# EAGLE library part SN65LVDS051 (library gost_micro)
SN65LVDS051 High-speed LVDS drivers and recievers
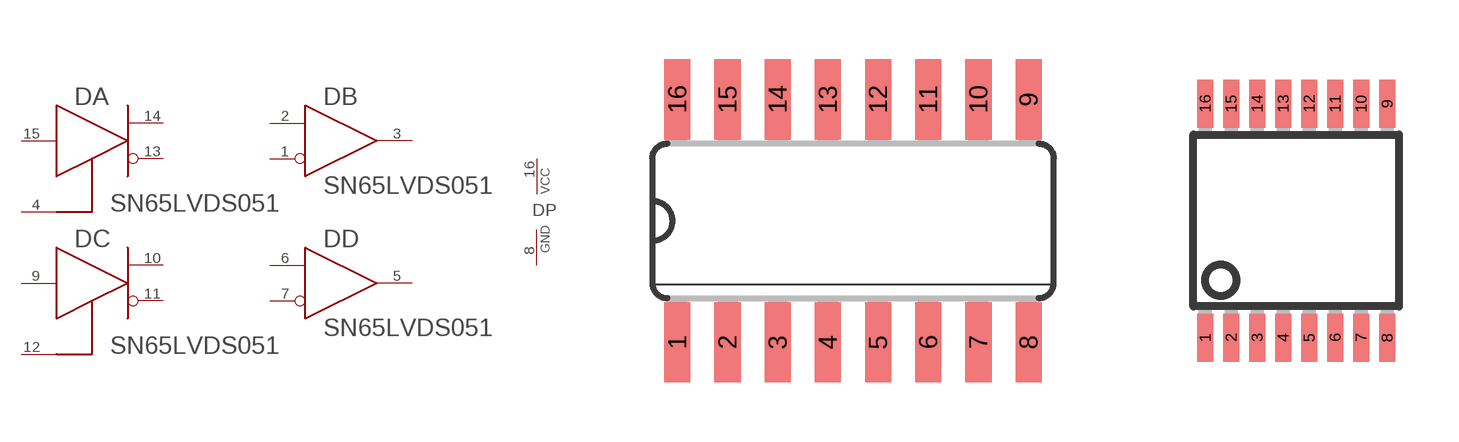
[diagram p23: symbol with the pads of SO16; footprints SO16, SSOP16]

Designator prefix D; gates A=LVDS_DRV_EN C=LVDS_DRV_EN B=LVDS_REC D=LVDS_REC P=PWRN

## SN65LVDS051D  [SO16]
1  B:B
2  B:A
3  B:R
4  A:DE
5  D:R
6  D:A
7  D:B
8  P:GND  pwr
9  C:D
10  C:Y
11  C:Z
12  C:DE
13  A:Z
14  A:Y
15  A:D
16  P:VCC  pwr

## SN65LVDS051PW  [SSOP16]
Pads as for SO16

## Footprint SO16 (pad centres in mm)
Small Outline package 150 mil
smd 0.66 x 2.032: 1 -4.445,-3.073; 2 -3.175,-3.073; 3 -1.905,-3.073; 4 -0.635,-3.073; 5 0.635,-3.073; 6 1.905,-3.073; 7 3.175,-3.073; 8 4.445,-3.073; 9 4.445,3.073; 10 3.175,3.073; 11 1.905,3.073; 12 0.635,3.073; 13 -0.635,3.073; 14 -1.905,3.073; 15 -3.175,3.073; 16 -4.445,3.073

## Footprint SSOP16 (pad centres in mm)
Small Shrink Outline Package
smd 0.4 x 1.2: 1 -2.275,-2.925; 2 -1.625,-2.925; 3 -0.975,-2.925; 4 -0.325,-2.925; 5 0.325,-2.925; 6 0.975,-2.925; 7 1.625,-2.925; 8 2.275,-2.925; 9 2.275,2.925; 10 1.625,2.925; 11 0.975,2.925; 12 0.325,2.925; 13 -0.325,2.925; 14 -0.975,2.925; 15 -1.625,2.925; 16 -2.275,2.925